# Altium integrated library MAX485_MODULE_5V_LOGIC_TLL_TO_RS-485_CONVERTER.IntLib: 1 symbol
Pins are listed as number, name and electrical type; pins without a type are passive.

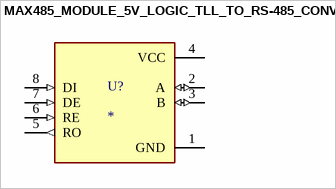
[diagram p0: symbol MAX485_MODULE_5V_LOGIC_TLL_TO_RS-485_CONVERTER]

## MAX485_MODULE_5V_LOGIC_TLL_TO_RS-485_CONVERTER
designator U?
5V MAX485 TTL To RS485 Converter Module Board for Arduino; MP: MAX485 Module 5V logic TLL to RS-485 converter; MF: e-Gizmo Mechatronix Central; Value: *; SnapEDA_Link: https://www.snapeda.com/parts/MAX485%20Module%205V%20logic%20TLL%20to%20RS-485%20converter/e-Gizmo+Mechatronix+Central/view-part/?ref=snap; Package: Package; Availability: Not in stock; Check_prices: https://www.snapeda.com/parts/MAX485%20Module%205V%20logic%20TLL%20to%20RS-485%20converter/e-Gizmo+Mechatronix+Central/view-part/?ref=eda; Price: None
footprint MODULE_MAX485_MODULE_5V_LOGIC_TLL_TO_RS-485_CONVERTER
pins: 1 GND (power), 2 A (io), 3 B (io), 4 VCC (power), 5 RO (out), 6 RE (in), 7 DE (in), 8 DI (in)